# Altium schematic symbol library 878311411.SchLib: 1 symbol
Pins are listed as number, name and electrical type; pins without a type are passive.

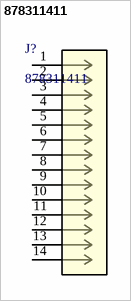
[diagram p0: symbol 878311411]

## 878311411
designator J?
2.00mm Pitch, Milli-Grid PCB Header, Dual Row, Vertical, Through Hole, Shrouded, 14 Circuits, 0.76Âµm Gold (Au) Plating, with Center Polarization Slot, with Locking Window, without PCB Locator, Tube; Manufacturer_Name: Molex Connector Corporation; Copyright: Copyright (C) 2025 Ultra Librarian. All rights reserved.; Manufacturer_Part_Number: 878311411; RefDes: RefDes; Type: Type
footprint CONN14_878311411_MOL
pins: 1, 2, 3, 4, 5, 6, 7, 8, 9, 10, 11, 12, 13, 14